# EAGLE library part SCANREG (library c035u)
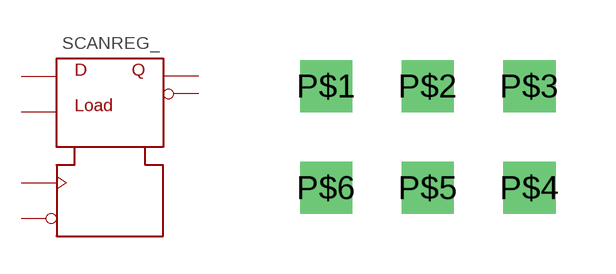
[diagram p0: symbol with the pads of 6PIN; footprint 6PIN]

Designator prefix SCANREG_

## SCANREG  [6PIN]
P$1  CLOCK
P$2  D
P$3  LOAD
P$4  NQ
P$5  NRESET
P$6  Q

## Footprint 6PIN (pad centres in mm)
drill 0.8 square: P$1 -2.54,1.27; P$2 0,1.27; P$3 2.54,1.27; P$4 2.54,-1.27; P$5 0,-1.27; P$6 -2.54,-1.27